# EAGLE library part AGAT_CON (library AGAT_Slot_Connector)
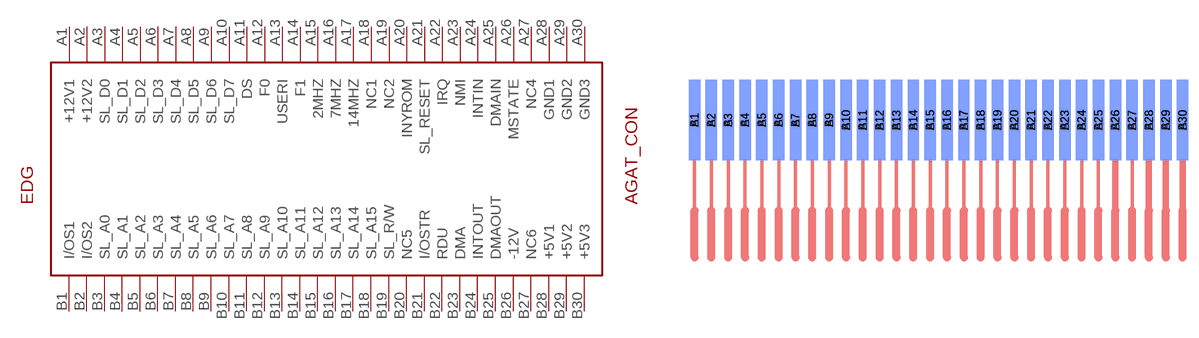
[diagram p0: symbol with the pads of AGAT_CONP; footprint AGAT_CONP]

Designator prefix EDG

## AGAT_CON  [AGAT_CONP]
A1  +12V1
A2  +12V2
A3  SL_D0
A4  SL_D1
A5  SL_D2
A6  SL_D3
A7  SL_D4
A8  SL_D5
A9  SL_D6
A10  SL_D7
A11  DS
A12  F0
A13  USERI
A14  F1
A15  2MHZ
A16  7MHZ
A17  14MHZ
A18  NC1
A19  NC2
A20  INYROM
A21  SL_RESET
A22  IRQ
A23  NMI
A24  INTIN
A25  DMAIN
A26  MSTATE
A27  NC4
A28  GND1
A29  GND2
A30  GND3
B1  I/OS1
B2  I/OS2
B3  SL_A0
B4  SL_A1
B5  SL_A2
B6  SL_A3
B7  SL_A4
B8  SL_A5
B9  SL_A6
B10  SL_A7
B11  SL_A8
B12  SL_A9
B13  SL_A10
B14  SL_A11
B15  SL_A12
B16  SL_A13
B17  SL_A14
B18  SL_A15
B19  SL_R/W
B20  NC5
B21  I/OSTR
B22  RDU
B23  DMA
B24  INTOUT
B25  DMAOUT
B26  -12V
B27  NC6
B28  +5V1
B29  +5V2
B30  +5V3

## Footprint AGAT_CONP (pad centres in mm)
smd 1.7 x 12 bottom: A1 -75,21.9; A2 -72.5,21.9; A3 -70,21.9; A4 -67.5,21.9; A5 -65,21.9; A6 -62.5,21.9; A7 -60,21.9; A8 -57.5,21.9; A9 -55,21.9; A10 -52.5,21.9; A11 -50,21.9; A12 -47.5,21.9; A13 -45,21.9; A14 -42.5,21.9; A15 -40,21.9; A16 -37.5,21.9; A17 -35,21.9; A18 -32.5,21.9; A19 -30,21.9; A20 -27.5,21.9; A21 -25,21.9; A22 -22.5,21.9; A23 -20,21.9; A24 -17.5,21.9; A25 -15,21.9; A26 -12.5,21.9; A27 -10,21.9; A28 -7.5,21.9; A29 -5,21.9; A30 -2.5,21.9
smd 1.7 x 12: B1 -75,21.9; B2 -72.5,21.9; B3 -70,21.9; B4 -67.5,21.9; B5 -65,21.9; B6 -62.5,21.9; B7 -60,21.9; B8 -57.5,21.9; B9 -55,21.9; B10 -52.5,21.9; B11 -50,21.9; B12 -47.5,21.9; B13 -45,21.9; B14 -42.5,21.9; B15 -40,21.9; B16 -37.5,21.9; B17 -35,21.9; B18 -32.5,21.9; B19 -30,21.9; B20 -27.5,21.9; B21 -25,21.9; B22 -22.5,21.9; B23 -20,21.9; B24 -17.5,21.9; B25 -15,21.9; B26 -12.5,21.9; B27 -10,21.9; B28 -7.5,21.9; B29 -5,21.9; B30 -2.5,21.9